# EAGLE library part 404B (library Displaytech (chr))
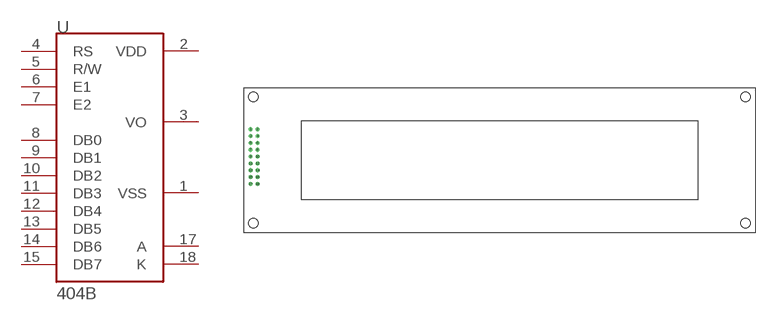
[diagram p16: symbol with the pads of 404B; footprint 404B]

Designator prefix -

## 404B  [404B]
1  VSS  pwr
2  VDD  pwr
3  VO  in
4  RS
5  R/W
6  E1
7  E2
8  DB0
9  DB1
10  DB2
11  DB3
12  DB4
13  DB5
14  DB6
15  DB7
17  A  pwr
18  K  pwr

## Footprint 404B (pad centres in mm)
drill 1.016 round: 1 0,0; 2 2.54,0; 3 0,-2.54; 4 2.54,-2.54; 5 0,-5.08; 6 2.54,-5.08; 7 0,-7.62; 8 2.54,-7.62; 9 0,-10.16; 10 2.54,-10.16; 11 0,-12.7; 12 2.54,-12.7; 13 0,-15.24; 14 2.54,-15.24; 15 0,-17.78; 16 2.54,-17.78; 17 0,-20.32; 18 2.54,-20.32